# Altium footprint library Connector_Samtec.PcbLib: 15 footprints
Each footprint in its own frame and in the unit in brackets; x right, y up, seen from the top. Pads: shape width x height; smd on the part's side, far side on the other; paste and mask are expansions set on the pad; w line width, h text height; cw(c..) or ccw(c..) is an arc to the next point about the centre after c.
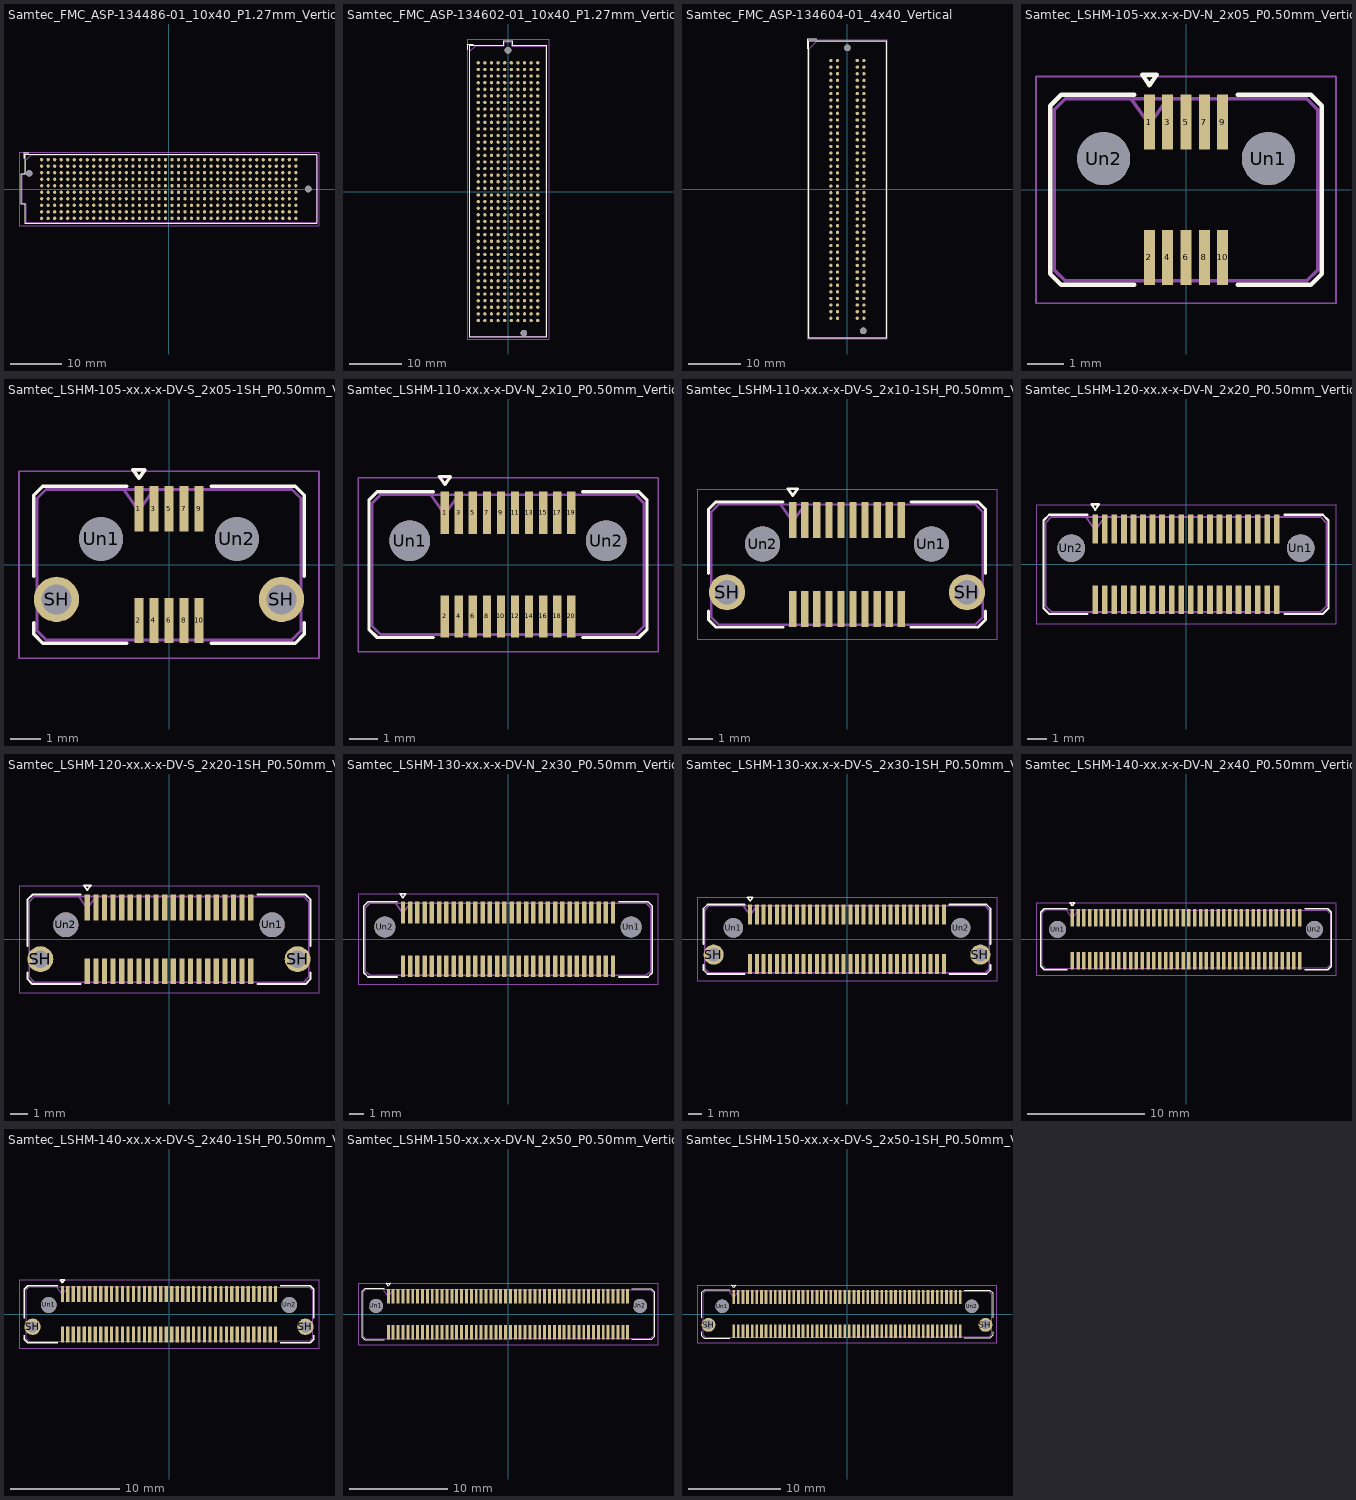
[diagram p0: the footprints below, top view; thin cyan lines are the x and y axes]

## Samtec_FMC_ASP-134486-01_10x40_P1.27mm_Vertical [mm]
pads (402):
  round 0.64 smd: A1(-24.765,5.715) A2(-23.495,5.715) A3(-22.225,5.715) A4(-20.955,5.715) A5(-19.685,5.715) A6(-18.415,5.715) A7(-17.145,5.715) A8(-15.875,5.715) A9(-14.605,5.715) A10(-13.335,5.715) A11(-12.065,5.715) A12(-10.795,5.715) A13(-9.525,5.715) A14(-8.255,5.715) A15(-6.985,5.715) A16(-5.715,5.715) A17(-4.445,5.715) A18(-3.175,5.715) A19(-1.905,5.715) A20(-0.64,5.715) A21(0.64,5.715) A22(1.905,5.715) A23(3.175,5.715) A24(4.445,5.715) A25(5.715,5.715) A26(6.985,5.715) A27(8.255,5.715) A28(9.525,5.715) A29(10.795,5.715) A30(12.065,5.715) A31(13.335,5.715) A32(14.605,5.715) A33(15.875,5.715) A34(17.145,5.715) A35(18.415,5.715) A36(19.685,5.715) A37(20.955,5.715) A38(22.225,5.715) A39(23.495,5.715) A40(24.765,5.715) B1(-24.765,4.445) B2(-23.495,4.445) B3(-22.225,4.445) B4(-20.955,4.445) B5(-19.685,4.445) B6(-18.415,4.445) B7(-17.145,4.445) B8(-15.875,4.445) B9(-14.605,4.445) B10(-13.335,4.445) B11(-12.065,4.445) B12(-10.795,4.445) B13(-9.525,4.445) B14(-8.255,4.445) B15(-6.985,4.445) B16(-5.715,4.445) B17(-4.445,4.445) B18(-3.175,4.445) B19(-1.905,4.445) B20(-0.64,4.445) B21(0.64,4.445) B22(1.905,4.445) B23(3.175,4.445) B24(4.445,4.445) B25(5.715,4.445) B26(6.985,4.445) B27(8.255,4.445) B28(9.525,4.445) B29(10.795,4.445) B30(12.065,4.445) B31(13.335,4.445) B32(14.605,4.445) B33(15.875,4.445) B34(17.145,4.445) B35(18.415,4.445) B36(19.685,4.445) B37(20.955,4.445) B38(22.225,4.445) B39(23.495,4.445) B40(24.765,4.445) C1(-24.765,3.175) C2(-23.495,3.175) C3(-22.225,3.175) C4(-20.955,3.175) C5(-19.685,3.175) C6(-18.415,3.175) C7(-17.145,3.175) C8(-15.875,3.175) C9(-14.605,3.175) C10(-13.335,3.175) C11(-12.065,3.175) C12(-10.795,3.175) C13(-9.525,3.175) C14(-8.255,3.175) C15(-6.985,3.175) C16(-5.715,3.175) C17(-4.445,3.175) C18(-3.175,3.175) C19(-1.905,3.175) C20(-0.64,3.175) C21(0.64,3.175) C22(1.905,3.175) C23(3.175,3.175) C24(4.445,3.175) C25(5.715,3.175) C26(6.985,3.175) C27(8.255,3.175) C28(9.525,3.175) C29(10.795,3.175) C30(12.065,3.175) C31(13.335,3.175) C32(14.605,3.175) C33(15.875,3.175) C34(17.145,3.175) C35(18.415,3.175) C36(19.685,3.175) C37(20.955,3.175) C38(22.225,3.175) C39(23.495,3.175) C40(24.765,3.175) D1(-24.765,1.905) D2(-23.495,1.905) D3(-22.225,1.905) D4(-20.955,1.905) D5(-19.685,1.905) D6(-18.415,1.905) D7(-17.145,1.905) D8(-15.875,1.905) D9(-14.605,1.905) D10(-13.335,1.905) D11(-12.065,1.905) D12(-10.795,1.905) D13(-9.525,1.905) D14(-8.255,1.905) D15(-6.985,1.905) D16(-5.715,1.905) D17(-4.445,1.905) D18(-3.175,1.905) D19(-1.905,1.905) D20(-0.64,1.905) D21(0.64,1.905) D22(1.905,1.905) D23(3.175,1.905) D24(4.445,1.905) D25(5.715,1.905) D26(6.985,1.905) D27(8.255,1.905) D28(9.525,1.905) D29(10.795,1.905) D30(12.065,1.905) D31(13.335,1.905) D32(14.605,1.905) D33(15.875,1.905) D34(17.145,1.905) D35(18.415,1.905) D36(19.685,1.905) D37(20.955,1.905) D38(22.225,1.905) D39(23.495,1.905) D40(24.765,1.905) E1(-24.765,0.64) E2(-23.495,0.64) E3(-22.225,0.64) E4(-20.955,0.64) E5(-19.685,0.64) E6(-18.415,0.64) E7(-17.145,0.64) E8(-15.875,0.64) E9(-14.605,0.64) E10(-13.335,0.64) E11(-12.065,0.64) E12(-10.795,0.64) E13(-9.525,0.64) E14(-8.255,0.64) E15(-6.985,0.64) E16(-5.715,0.64) E17(-4.445,0.64) E18(-3.175,0.64) E19(-1.905,0.64) E20(-0.64,0.64) E21(0.64,0.64) E22(1.905,0.64) E23(3.175,0.64) E24(4.445,0.64) E25(5.715,0.64) E26(6.985,0.64) E27(8.255,0.64) E28(9.525,0.64) E29(10.795,0.64) E30(12.065,0.64) E31(13.335,0.64) E32(14.605,0.64) E33(15.875,0.64) E34(17.145,0.64) E35(18.415,0.64) E36(19.685,0.64) E37(20.955,0.64) E38(22.225,0.64) E39(23.495,0.64) E40(24.765,0.64) F1(-24.765,-0.64) F2(-23.495,-0.64) F3(-22.225,-0.64) F4(-20.955,-0.64) F5(-19.685,-0.64) F6(-18.415,-0.64) F7(-17.145,-0.64) F8(-15.875,-0.64) F9(-14.605,-0.64) F10(-13.335,-0.64) F11(-12.065,-0.64) F12(-10.795,-0.64) F13(-9.525,-0.64) F14(-8.255,-0.64) F15(-6.985,-0.64) F16(-5.715,-0.64) F17(-4.445,-0.64) F18(-3.175,-0.64) F19(-1.905,-0.64) F20(-0.64,-0.64) F21(0.64,-0.64) F22(1.905,-0.64) F23(3.175,-0.64) F24(4.445,-0.64) F25(5.715,-0.64) F26(6.985,-0.64) F27(8.255,-0.64) F28(9.525,-0.64) F29(10.795,-0.64) F30(12.065,-0.64) F31(13.335,-0.64) F32(14.605,-0.64) F33(15.875,-0.64) F34(17.145,-0.64) F35(18.415,-0.64) F36(19.685,-0.64) F37(20.955,-0.64) F38(22.225,-0.64) F39(23.495,-0.64) F40(24.765,-0.64) G1(-24.765,-1.905) G2(-23.495,-1.905) G3(-22.225,-1.905) G4(-20.955,-1.905) G5(-19.685,-1.905) G6(-18.415,-1.905) G7(-17.145,-1.905) G8(-15.875,-1.905) G9(-14.605,-1.905) G10(-13.335,-1.905) G11(-12.065,-1.905) G12(-10.795,-1.905) G13(-9.525,-1.905) G14(-8.255,-1.905) G15(-6.985,-1.905) G16(-5.715,-1.905) G17(-4.445,-1.905) G18(-3.175,-1.905) G19(-1.905,-1.905) G20(-0.64,-1.905) G21(0.64,-1.905) G22(1.905,-1.905) G23(3.175,-1.905) G24(4.445,-1.905) G25(5.715,-1.905) G26(6.985,-1.905) G27(8.255,-1.905) G28(9.525,-1.905) G29(10.795,-1.905) G30(12.065,-1.905) G31(13.335,-1.905) G32(14.605,-1.905) G33(15.875,-1.905) G34(17.145,-1.905) G35(18.415,-1.905) G36(19.685,-1.905) G37(20.955,-1.905) G38(22.225,-1.905) G39(23.495,-1.905) G40(24.765,-1.905) H1(-24.765,-3.175) H2(-23.495,-3.175) H3(-22.225,-3.175) H4(-20.955,-3.175) H5(-19.685,-3.175) H6(-18.415,-3.175) H7(-17.145,-3.175) H8(-15.875,-3.175) H9(-14.605,-3.175) H10(-13.335,-3.175) H11(-12.065,-3.175) H12(-10.795,-3.175) H13(-9.525,-3.175) H14(-8.255,-3.175) H15(-6.985,-3.175) H16(-5.715,-3.175) H17(-4.445,-3.175) H18(-3.175,-3.175) H19(-1.905,-3.175) H20(-0.64,-3.175) H21(0.64,-3.175) H22(1.905,-3.175) H23(3.175,-3.175) H24(4.445,-3.175) H25(5.715,-3.175) H26(6.985,-3.175) H27(8.255,-3.175) H28(9.525,-3.175) H29(10.795,-3.175) H30(12.065,-3.175) H31(13.335,-3.175) H32(14.605,-3.175) H33(15.875,-3.175) H34(17.145,-3.175) H35(18.415,-3.175) H36(19.685,-3.175) H37(20.955,-3.175) H38(22.225,-3.175) H39(23.495,-3.175) H40(24.765,-3.175) J1(-24.765,-4.445) J2(-23.495,-4.445) J3(-22.225,-4.445) J4(-20.955,-4.445) J5(-19.685,-4.445) J6(-18.415,-4.445) J7(-17.145,-4.445) J8(-15.875,-4.445) J9(-14.605,-4.445) J10(-13.335,-4.445) J11(-12.065,-4.445) J12(-10.795,-4.445) J13(-9.525,-4.445) J14(-8.255,-4.445) J15(-6.985,-4.445) J16(-5.715,-4.445) J17(-4.445,-4.445) J18(-3.175,-4.445) J19(-1.905,-4.445) J20(-0.64,-4.445) J21(0.64,-4.445) J22(1.905,-4.445) J23(3.175,-4.445) J24(4.445,-4.445) J25(5.715,-4.445) J26(6.985,-4.445) J27(8.255,-4.445) J28(9.525,-4.445) J29(10.795,-4.445) J30(12.065,-4.445) J31(13.335,-4.445) J32(14.605,-4.445) J33(15.875,-4.445) J34(17.145,-4.445) J35(18.415,-4.445) J36(19.685,-4.445) J37(20.955,-4.445) J38(22.225,-4.445) J39(23.495,-4.445) J40(24.765,-4.445) K1(-24.765,-5.715) K2(-23.495,-5.715) K3(-22.225,-5.715) K4(-20.955,-5.715) K5(-19.685,-5.715) K6(-18.415,-5.715) K7(-17.145,-5.715) K8(-15.875,-5.715) K9(-14.605,-5.715) K10(-13.335,-5.715) K11(-12.065,-5.715) K12(-10.795,-5.715) K13(-9.525,-5.715) K14(-8.255,-5.715) K15(-6.985,-5.715) K16(-5.715,-5.715) K17(-4.445,-5.715) K18(-3.175,-5.715) K19(-1.905,-5.715) K20(-0.64,-5.715) K21(0.64,-5.715) K22(1.905,-5.715) K23(3.175,-5.715) K24(4.445,-5.715) K25(5.715,-5.715) K26(6.985,-5.715) K27(8.255,-5.715) K28(9.525,-5.715) K29(10.795,-5.715) K30(12.065,-5.715) K31(13.335,-5.715) K32(14.605,-5.715) K33(15.875,-5.715) K34(17.145,-5.715) K35(18.415,-5.715) K36(19.685,-5.715) K37(20.955,-5.715) K38(22.225,-5.715) K39(23.495,-5.715) K40(24.765,-5.715)
  round 1.27 hole 1.27: Un1(27.191,0) Un2(-27.19,3.05)
F.SilkS:
  lines w0.12: -28.235,5.97 -28.235,6.97 -27.235,6.97 ; 28.865,6.725 -27.975,6.725 -27.975,2.96 -28.775,2.96 -28.775,-2.96 -27.975,-2.96 -27.975,-6.725 28.87,-6.725 ; 28.87,-6.72 28.87,6.72
F.CrtYd:
  lines w0.05: -29.17,-7.12 -29.17,7.12 29.27,7.12 29.27,-7.12 -29.17,-7.12
F.Fab:
  lines w0.1: -27.865,5.63 -27.865,2.85 -28.665,2.85 -28.665,-2.85 -27.865,-2.85 -27.865,-6.615 28.765,-6.615 28.765,6.615 -26.885,6.615 ; -27.865,5.64 -26.885,6.62
  text "'.Designator'" at -3.907,-0.84 h1

## Samtec_FMC_ASP-134602-01_10x40_P1.27mm_Vertical [mm]
pads (402):
  round 0.64 smd: A1(-5.715,24.765) A2(-5.715,23.495) A3(-5.715,22.225) A4(-5.715,20.955) A5(-5.715,19.685) A6(-5.715,18.415) A7(-5.715,17.145) A8(-5.715,15.875) A9(-5.715,14.605) A10(-5.715,13.335) A11(-5.715,12.065) A12(-5.715,10.795) A13(-5.715,9.525) A14(-5.715,8.255) A15(-5.715,6.985) A16(-5.715,5.715) A17(-5.715,4.445) A18(-5.715,3.175) A19(-5.715,1.905) A20(-5.715,0.64) A21(-5.715,-0.64) A22(-5.715,-1.905) A23(-5.715,-3.175) A24(-5.715,-4.445) A25(-5.715,-5.715) A26(-5.715,-6.985) A27(-5.715,-8.255) A28(-5.715,-9.525) A29(-5.715,-10.795) A30(-5.715,-12.065) A31(-5.715,-13.335) A32(-5.715,-14.605) A33(-5.715,-15.875) A34(-5.715,-17.145) A35(-5.715,-18.415) A36(-5.715,-19.685) A37(-5.715,-20.955) A38(-5.715,-22.225) A39(-5.715,-23.495) A40(-5.715,-24.765) B1(-4.445,24.765) B2(-4.445,23.495) B3(-4.445,22.225) B4(-4.445,20.955) B5(-4.445,19.685) B6(-4.445,18.415) B7(-4.445,17.145) B8(-4.445,15.875) B9(-4.445,14.605) B10(-4.445,13.335) B11(-4.445,12.065) B12(-4.445,10.795) B13(-4.445,9.525) B14(-4.445,8.255) B15(-4.445,6.985) B16(-4.445,5.715) B17(-4.445,4.445) B18(-4.445,3.175) B19(-4.445,1.905) B20(-4.445,0.64) B21(-4.445,-0.64) B22(-4.445,-1.905) B23(-4.445,-3.175) B24(-4.445,-4.445) B25(-4.445,-5.715) B26(-4.445,-6.985) B27(-4.445,-8.255) B28(-4.445,-9.525) B29(-4.445,-10.795) B30(-4.445,-12.065) B31(-4.445,-13.335) B32(-4.445,-14.605) B33(-4.445,-15.875) B34(-4.445,-17.145) B35(-4.445,-18.415) B36(-4.445,-19.685) B37(-4.445,-20.955) B38(-4.445,-22.225) B39(-4.445,-23.495) B40(-4.445,-24.765) C1(-3.175,24.765) C2(-3.175,23.495) C3(-3.175,22.225) C4(-3.175,20.955) C5(-3.175,19.685) C6(-3.175,18.415) C7(-3.175,17.145) C8(-3.175,15.875) C9(-3.175,14.605) C10(-3.175,13.335) C11(-3.175,12.065) C12(-3.175,10.795) C13(-3.175,9.525) C14(-3.175,8.255) C15(-3.175,6.985) C16(-3.175,5.715) C17(-3.175,4.445) C18(-3.175,3.175) C19(-3.175,1.905) C20(-3.175,0.64) C21(-3.175,-0.64) C22(-3.175,-1.905) C23(-3.175,-3.175) C24(-3.175,-4.445) C25(-3.175,-5.715) C26(-3.175,-6.985) C27(-3.175,-8.255) C28(-3.175,-9.525) C29(-3.175,-10.795) C30(-3.175,-12.065) C31(-3.175,-13.335) C32(-3.175,-14.605) C33(-3.175,-15.875) C34(-3.175,-17.145) C35(-3.175,-18.415) C36(-3.175,-19.685) C37(-3.175,-20.955) C38(-3.175,-22.225) C39(-3.175,-23.495) C40(-3.175,-24.765) D1(-1.905,24.765) D2(-1.905,23.495) D3(-1.905,22.225) D4(-1.905,20.955) D5(-1.905,19.685) D6(-1.905,18.415) D7(-1.905,17.145) D8(-1.905,15.875) D9(-1.905,14.605) D10(-1.905,13.335) D11(-1.905,12.065) D12(-1.905,10.795) D13(-1.905,9.525) D14(-1.905,8.255) D15(-1.905,6.985) D16(-1.905,5.715) D17(-1.905,4.445) D18(-1.905,3.175) D19(-1.905,1.905) D20(-1.905,0.64) D21(-1.905,-0.64) D22(-1.905,-1.905) D23(-1.905,-3.175) D24(-1.905,-4.445) D25(-1.905,-5.715) D26(-1.905,-6.985) D27(-1.905,-8.255) D28(-1.905,-9.525) D29(-1.905,-10.795) D30(-1.905,-12.065) D31(-1.905,-13.335) D32(-1.905,-14.605) D33(-1.905,-15.875) D34(-1.905,-17.145) D35(-1.905,-18.415) D36(-1.905,-19.685) D37(-1.905,-20.955) D38(-1.905,-22.225) D39(-1.905,-23.495) D40(-1.905,-24.765) E1(-0.64,24.765) E2(-0.64,23.495) E3(-0.64,22.225) E4(-0.64,20.955) E5(-0.64,19.685) E6(-0.64,18.415) E7(-0.64,17.145) E8(-0.64,15.875) E9(-0.64,14.605) E10(-0.64,13.335) E11(-0.64,12.065) E12(-0.64,10.795) E13(-0.64,9.525) E14(-0.64,8.255) E15(-0.64,6.985) E16(-0.64,5.715) E17(-0.64,4.445) E18(-0.64,3.175) E19(-0.64,1.905) E20(-0.64,0.64) E21(-0.64,-0.64) E22(-0.64,-1.905) E23(-0.64,-3.175) E24(-0.64,-4.445) E25(-0.64,-5.715) E26(-0.64,-6.985) E27(-0.64,-8.255) E28(-0.64,-9.525) E29(-0.64,-10.795) E30(-0.64,-12.065) E31(-0.64,-13.335) E32(-0.64,-14.605) E33(-0.64,-15.875) E34(-0.64,-17.145) E35(-0.64,-18.415) E36(-0.64,-19.685) E37(-0.64,-20.955) E38(-0.64,-22.225) E39(-0.64,-23.495) E40(-0.64,-24.765) F1(0.64,24.765) F2(0.64,23.495) F3(0.64,22.225) F4(0.64,20.955) F5(0.64,19.685) F6(0.64,18.415) F7(0.64,17.145) F8(0.64,15.875) F9(0.64,14.605) F10(0.64,13.335) F11(0.64,12.065) F12(0.64,10.795) F13(0.64,9.525) F14(0.64,8.255) F15(0.64,6.985) F16(0.64,5.715) F17(0.64,4.445) F18(0.64,3.175) F19(0.64,1.905) F20(0.64,0.64) F21(0.64,-0.64) F22(0.64,-1.905) F23(0.64,-3.175) F24(0.64,-4.445) F25(0.64,-5.715) F26(0.64,-6.985) F27(0.64,-8.255) F28(0.64,-9.525) F29(0.64,-10.795) F30(0.64,-12.065) F31(0.64,-13.335) F32(0.64,-14.605) F33(0.64,-15.875) F34(0.64,-17.145) F35(0.64,-18.415) F36(0.64,-19.685) F37(0.64,-20.955) F38(0.64,-22.225) F39(0.64,-23.495) F40(0.64,-24.765) G1(1.905,24.765) G2(1.905,23.495) G3(1.905,22.225) G4(1.905,20.955) G5(1.905,19.685) G6(1.905,18.415) G7(1.905,17.145) G8(1.905,15.875) G9(1.905,14.605) G10(1.905,13.335) G11(1.905,12.065) G12(1.905,10.795) G13(1.905,9.525) G14(1.905,8.255) G15(1.905,6.985) G16(1.905,5.715) G17(1.905,4.445) G18(1.905,3.175) G19(1.905,1.905) G20(1.905,0.64) G21(1.905,-0.64) G22(1.905,-1.905) G23(1.905,-3.175) G24(1.905,-4.445) G25(1.905,-5.715) G26(1.905,-6.985) G27(1.905,-8.255) G28(1.905,-9.525) G29(1.905,-10.795) G30(1.905,-12.065) G31(1.905,-13.335) G32(1.905,-14.605) G33(1.905,-15.875) G34(1.905,-17.145) G35(1.905,-18.415) G36(1.905,-19.685) G37(1.905,-20.955) G38(1.905,-22.225) G39(1.905,-23.495) G40(1.905,-24.765) H1(3.175,24.765) H2(3.175,23.495) H3(3.175,22.225) H4(3.175,20.955) H5(3.175,19.685) H6(3.175,18.415) H7(3.175,17.145) H8(3.175,15.875) H9(3.175,14.605) H10(3.175,13.335) H11(3.175,12.065) H12(3.175,10.795) H13(3.175,9.525) H14(3.175,8.255) H15(3.175,6.985) H16(3.175,5.715) H17(3.175,4.445) H18(3.175,3.175) H19(3.175,1.905) H20(3.175,0.64) H21(3.175,-0.64) H22(3.175,-1.905) H23(3.175,-3.175) H24(3.175,-4.445) H25(3.175,-5.715) H26(3.175,-6.985) H27(3.175,-8.255) H28(3.175,-9.525) H29(3.175,-10.795) H30(3.175,-12.065) H31(3.175,-13.335) H32(3.175,-14.605) H33(3.175,-15.875) H34(3.175,-17.145) H35(3.175,-18.415) H36(3.175,-19.685) H37(3.175,-20.955) H38(3.175,-22.225) H39(3.175,-23.495) H40(3.175,-24.765) J1(4.445,24.765) J2(4.445,23.495) J3(4.445,22.225) J4(4.445,20.955) J5(4.445,19.685) J6(4.445,18.415) J7(4.445,17.145) J8(4.445,15.875) J9(4.445,14.605) J10(4.445,13.335) J11(4.445,12.065) J12(4.445,10.795) J13(4.445,9.525) J14(4.445,8.255) J15(4.445,6.985) J16(4.445,5.715) J17(4.445,4.445) J18(4.445,3.175) J19(4.445,1.905) J20(4.445,0.64) J21(4.445,-0.64) J22(4.445,-1.905) J23(4.445,-3.175) J24(4.445,-4.445) J25(4.445,-5.715) J26(4.445,-6.985) J27(4.445,-8.255) J28(4.445,-9.525) J29(4.445,-10.795) J30(4.445,-12.065) J31(4.445,-13.335) J32(4.445,-14.605) J33(4.445,-15.875) J34(4.445,-17.145) J35(4.445,-18.415) J36(4.445,-19.685) J37(4.445,-20.955) J38(4.445,-22.225) J39(4.445,-23.495) J40(4.445,-24.765) K1(5.715,24.765) K2(5.715,23.495) K3(5.715,22.225) K4(5.715,20.955) K5(5.715,19.685) K6(5.715,18.415) K7(5.715,17.145) K8(5.715,15.875) K9(5.715,14.605) K10(5.715,13.335) K11(5.715,12.065) K12(5.715,10.795) K13(5.715,9.525) K14(5.715,8.255) K15(5.715,6.985) K16(5.715,5.715) K17(5.715,4.445) K18(5.715,3.175) K19(5.715,1.905) K20(5.715,0.64) K21(5.715,-0.64) K22(5.715,-1.905) K23(5.715,-3.175) K24(5.715,-4.445) K25(5.715,-5.715) K26(5.715,-6.985) K27(5.715,-8.255) K28(5.715,-9.525) K29(5.715,-10.795) K30(5.715,-12.065) K31(5.715,-13.335) K32(5.715,-14.605) K33(5.715,-15.875) K34(5.715,-17.145) K35(5.715,-18.415) K36(5.715,-19.685) K37(5.715,-20.955) K38(5.715,-22.225) K39(5.715,-23.495) K40(5.715,-24.765)
  round 1.27 hole 1.27: Un1(3.05,-27.19) Un2(0,27.19)
F.SilkS:
  lines w0.12: -7.7,27.3 -7.7,28.3 -6.7,28.3 ; -7.45,-27.93 -7.45,28.07 -0.87,28.07 -0.87,28.96 0.87,28.96 0.87,28.07 7.45,28.07 7.45,-27.93 -7.45,-27.93
F.CrtYd:
  lines w0.05: -7.84,-28.32 -7.84,29.35 7.84,29.35 7.84,-28.32 -7.84,-28.32
F.Fab:
  lines w0.1: -7.34,-27.82 7.34,-27.82 7.34,27.96 0.76,27.96 0.76,28.85 -0.76,28.85 -0.76,27.96 -6.33,27.96 -7.34,26.95 -7.34,-27.82
  text "'.Designator'" at -4.047,-0.98 h1

## Samtec_FMC_ASP-134604-01_4x40_Vertical [mm]
pads (162):
  round 0.64 smd: C01(-3.175,24.765) C02(-3.175,23.495) C03(-3.175,22.225) C04(-3.175,20.955) C05(-3.175,19.685) C06(-3.175,18.415) C07(-3.175,17.145) C08(-3.175,15.875) C09(-3.175,14.605) C10(-3.175,13.335) C11(-3.175,12.065) C12(-3.175,10.795) C13(-3.175,9.525) C14(-3.175,8.255) C15(-3.175,6.985) C16(-3.175,5.715) C17(-3.175,4.445) C18(-3.175,3.175) C19(-3.175,1.905) C20(-3.175,0.635) C21(-3.175,-0.64) C22(-3.175,-1.905) C23(-3.175,-3.175) C24(-3.175,-4.445) C25(-3.175,-5.715) C26(-3.175,-6.985) C27(-3.175,-8.255) C28(-3.175,-9.525) C29(-3.175,-10.795) C30(-3.175,-12.065) C31(-3.175,-13.335) C32(-3.175,-14.605) C33(-3.175,-15.875) C34(-3.175,-17.145) C35(-3.175,-18.415) C36(-3.175,-19.685) C37(-3.175,-20.955) C38(-3.175,-22.225) C39(-3.175,-23.495) C40(-3.175,-24.765) D01(-1.905,24.765) D02(-1.905,23.495) D03(-1.905,22.225) D04(-1.905,20.955) D05(-1.905,19.685) D06(-1.905,18.415) D07(-1.905,17.145) D08(-1.905,15.875) D09(-1.905,14.605) D10(-1.905,13.335) D11(-1.905,12.065) D12(-1.905,10.795) D13(-1.905,9.525) D14(-1.905,8.255) D15(-1.905,6.985) D16(-1.905,5.715) D17(-1.905,4.445) D18(-1.905,3.175) D19(-1.905,1.91) D20(-1.905,0.635) D21(-1.905,-0.635) D22(-1.905,-1.905) D23(-1.905,-3.175) D24(-1.905,-4.445) D25(-1.905,-5.715) D26(-1.905,-6.985) D27(-1.905,-8.255) D28(-1.905,-9.525) D29(-1.905,-10.795) D30(-1.905,-12.065) D31(-1.905,-13.335) D32(-1.905,-14.605) D33(-1.905,-15.875) D34(-1.905,-17.145) D35(-1.905,-18.415) D36(-1.905,-19.685) D37(-1.905,-20.955) D38(-1.905,-22.225) D39(-1.905,-23.495) D40(-1.905,-24.765) G01(1.905,24.765) G02(1.905,23.495) G03(1.905,22.225) G04(1.905,20.955) G05(1.905,19.685) G06(1.905,18.415) G07(1.905,17.14) G08(1.905,15.875) G09(1.905,14.605) G10(1.905,13.335) G11(1.905,12.065) G12(1.905,10.795) G13(1.905,9.525) G14(1.905,8.255) G15(1.905,6.985) G16(1.905,5.715) G17(1.905,4.445) G18(1.905,3.17) G19(1.905,1.905) G20(1.905,0.635) G21(1.905,-0.635) G22(1.905,-1.905) G23(1.905,-3.175) G24(1.905,-4.445) G25(1.905,-5.71) G26(1.905,-6.985) G27(1.905,-8.255) G28(1.905,-9.525) G29(1.905,-10.795) G30(1.905,-12.065) G31(1.905,-13.335) G32(1.905,-14.605) G33(1.905,-15.875) G34(1.905,-17.145) G35(1.905,-18.415) G36(1.905,-19.685) G37(1.905,-20.955) G38(1.905,-22.225) G39(1.905,-23.495) G40(1.905,-24.765) H01(3.175,24.765) H02(3.175,23.495) H03(3.175,22.225) H04(3.175,20.955) H05(3.175,19.685) H06(3.175,18.415) H07(3.175,17.14) H08(3.175,15.875) H09(3.175,14.605) H10(3.175,13.335) H11(3.175,12.065) H12(3.175,10.795) H13(3.175,9.525) H14(3.175,8.255) H15(3.175,6.985) H16(3.175,5.715) H17(3.175,4.445) H18(3.175,3.17) H19(3.175,1.905) H20(3.175,0.635) H21(3.175,-0.635) H22(3.175,-1.905) H23(3.175,-3.175) H24(3.175,-4.445) H25(3.175,-5.715) H26(3.175,-6.985) H27(3.175,-8.255) H28(3.175,-9.525) H29(3.175,-10.795) H30(3.175,-12.065) H31(3.175,-13.335) H32(3.175,-14.605) H33(3.175,-15.875) H34(3.175,-17.145) H35(3.175,-18.415) H36(3.175,-19.685) H37(3.175,-20.955) H38(3.175,-22.225) H39(3.175,-23.495) H40(3.175,-24.765)
  round 1.27 hole 1.27: Un1(0,27.19) Un2(3.05,-27.19)
F.SilkS:
  lines w0.12: -7.74,27 -7.74,28.9 -5.84,28.9 ; -7.45,-28.61 7.45,-28.61 7.45,28.61 -7.45,28.61 -7.45,-28.61
F.CrtYd:
  lines w0.05: -7.59,-28.75 7.59,-28.75 7.59,28.75 -7.59,28.75 -7.59,-28.75
F.Fab:
  lines w0.1: -7.34,-28.5 7.34,-28.5 7.34,28.5 -5.84,28.5 -7.34,27 -7.34,-28.5
  text "'.Designator'" at 0.84,-4.047 h1

## Samtec_LSHM-105-xx.x-x-DV-N_2x05_P0.50mm_Vertical [mm]
pads (12):
  rect 0.3x1.5 smd: 1(-1,1.85) 2(-1,-1.85) 3(-0.5,1.85) 4(-0.5,-1.85) 5(0,1.85) 6(0,-1.85) 7(0.5,1.85) 8(0.5,-1.85) 9(1,1.85) 10(1,-1.85)
  round 1.45 hole 1.45: Un1(2.25,0.85) Un2(-2.25,0.85)
F.SilkS:
  lines w0.12: -1.41,-2.6 -3.41,-2.6 -3.71,-2.3 -3.71,2.3 -3.41,2.6 -1.41,2.6 ; 1.41,-2.6 3.41,-2.6 3.71,-2.3 3.71,2.3 3.41,2.6 1.41,2.6 ; -1.2,3.143 -0.8,3.143 -1,2.86 -1.2,3.143
F.CrtYd:
  lines w0.05: -4.1,-3.1 4.1,-3.1 4.1,3.1 -4.1,3.1 -4.1,-3.1
F.Fab:
  lines w0.1: -1.5,2.49 -1,1.783 -0.5,2.49 ; -3.6,-2.19 -3.6,2.19 -3.3,2.49 0,2.49 3.3,2.49 3.6,2.19 3.6,-2.19 3.3,-2.49 0,-2.49 -3.3,-2.49 -3.6,-2.19
  text "'.Designator'" at -4.047,-0.84 h1

## Samtec_LSHM-105-xx.x-x-DV-S_2x05-1SH_P0.50mm_Vertical [mm]
pads (14):
  rect 0.3x1.5 smd: 1(-1,1.85) 2(-1,-1.85) 3(-0.5,1.85) 4(-0.5,-1.85) 5(0,1.85) 6(0,-1.85) 7(0.5,1.85) 8(0.5,-1.85) 9(1,1.85) 10(1,-1.85)
  round 1.5 hole 1: SH(-3.725,-1.15) SH(3.725,-1.15)
  round 1.45 hole 1.45: Un1(-2.25,0.85) Un2(2.25,0.85)
F.SilkS:
  lines w0.12: -4.485,-1.923 -4.485,-2.3 -4.185,-2.6 -1.41,-2.6 ; -4.485,-0.377 -4.485,2.3 -4.185,2.6 -1.41,2.6 ; 1.41,-2.6 4.185,-2.6 4.485,-2.3 4.485,-1.923 ; 1.41,2.6 4.185,2.6 4.485,2.3 4.485,-0.377 ; -1.2,3.143 -0.8,3.143 -1,2.86 -1.2,3.143
F.CrtYd:
  lines w0.05: -4.97,-3.1 4.97,-3.1 4.97,3.1 -4.97,3.1 -4.97,-3.1
F.Fab:
  lines w0.1: -1.5,2.49 -1,1.783 -0.5,2.49 ; -4.375,-2.19 -4.075,-2.49 0,-2.49 4.075,-2.49 4.375,-2.19 4.375,2.19 4.075,2.49 0,2.49 -4.075,2.49 -4.375,2.19 -4.375,-2.19
  text "'.Designator'" at -4.047,-0.84 h1

## Samtec_LSHM-110-xx.x-x-DV-N_2x10_P0.50mm_Vertical [mm]
pads (22):
  rect 0.3x1.5 smd: 1(-2.25,1.85) 2(-2.25,-1.85) 3(-1.75,1.85) 4(-1.75,-1.85) 5(-1.25,1.85) 6(-1.25,-1.85) 7(-0.75,1.85) 8(-0.75,-1.85) 9(-0.25,1.85) 10(-0.25,-1.85) 11(0.25,1.85) 12(0.25,-1.85) 13(0.75,1.85) 14(0.75,-1.85) 15(1.25,1.85) 16(1.25,-1.85) 17(1.75,1.85) 18(1.75,-1.85) 19(2.25,1.85) 20(2.25,-1.85)
  round 1.45 hole 1.45: Un1(-3.5,0.85) Un2(3.5,0.85)
F.SilkS:
  lines w0.12: -2.66,-2.6 -4.66,-2.6 -4.96,-2.3 -4.96,2.3 -4.66,2.6 -2.66,2.6 ; 2.66,-2.6 4.66,-2.6 4.96,-2.3 4.96,2.3 4.66,2.6 2.66,2.6 ; -2.45,3.143 -2.25,2.86 -2.05,3.143 -2.45,3.143
F.CrtYd:
  lines w0.05: -5.35,-3.1 -5.35,3.1 5.35,3.1 5.35,-3.1 -5.35,-3.1
F.Fab:
  lines w0.1: -2.75,2.49 -2.25,1.783 -1.75,2.49 ; -4.85,-2.19 -4.55,-2.49 0,-2.49 4.55,-2.49 4.85,-2.19 4.85,2.19 4.55,2.49 0,2.49 -4.55,2.49 -4.85,2.19 -4.85,-2.19
  text "'.Designator'" at -4.047,-0.84 h1

## Samtec_LSHM-110-xx.x-x-DV-S_2x10-1SH_P0.50mm_Vertical [mm]
pads (24):
  rect 0.3x1.5 smd: 1(-2.25,1.85) 2(-2.25,-1.85) 3(-1.75,1.85) 4(-1.75,-1.85) 5(-1.25,1.85) 6(-1.25,-1.85) 7(-0.75,1.85) 8(-0.75,-1.85) 9(-0.25,1.85) 10(-0.25,-1.85) 11(0.25,1.85) 12(0.25,-1.85) 13(0.75,1.85) 14(0.75,-1.85) 15(1.25,1.85) 16(1.25,-1.85) 17(1.75,1.85) 18(1.75,-1.85) 19(2.25,1.85) 20(2.25,-1.85)
  round 1.5 hole 1: SH(-4.975,-1.15) SH(4.975,-1.15)
  round 1.45 hole 1.45: Un1(3.5,0.85) Un2(-3.5,0.85)
F.SilkS:
  lines w0.12: -5.735,-1.923 -5.735,-2.3 -5.435,-2.6 -2.66,-2.6 ; -5.735,-0.377 -5.735,2.3 -5.435,2.6 -2.66,2.6 ; 2.66,-2.6 5.435,-2.6 5.735,-2.3 5.735,-1.923 ; 2.66,2.6 5.435,2.6 5.735,2.3 5.735,-0.377 ; -2.45,3.143 -2.05,3.143 -2.25,2.86 -2.45,3.143
F.CrtYd:
  lines w0.05: -6.22,-3.1 6.22,-3.1 6.22,3.1 -6.22,3.1 -6.22,-3.1
F.Fab:
  lines w0.1: -2.75,2.49 -2.25,1.783 -1.75,2.49 ; -5.625,-2.19 -5.625,2.19 -5.325,2.49 0,2.49 5.325,2.49 5.625,2.19 5.625,-2.19 5.325,-2.49 0,-2.49 -5.325,-2.49 -5.625,-2.19
  text "'.Designator'" at -4.047,-0.84 h1

## Samtec_LSHM-120-xx.x-x-DV-N_2x20_P0.50mm_Vertical [mm]
pads (42):
  rect 0.3x1.5 smd: 1(-4.75,1.85) 2(-4.75,-1.85) 3(-4.25,1.85) 4(-4.25,-1.85) 5(-3.75,1.85) 6(-3.75,-1.85) 7(-3.25,1.85) 8(-3.25,-1.85) 9(-2.75,1.85) 10(-2.75,-1.85) 11(-2.25,1.85) 12(-2.25,-1.85) 13(-1.75,1.85) 14(-1.75,-1.85) 15(-1.25,1.85) 16(-1.25,-1.85) 17(-0.75,1.85) 18(-0.75,-1.85) 19(-0.25,1.85) 20(-0.25,-1.85) 21(0.25,1.85) 22(0.25,-1.85) 23(0.75,1.85) 24(0.75,-1.85) 25(1.25,1.85) 26(1.25,-1.85) 27(1.75,1.85) 28(1.75,-1.85) 29(2.25,1.85) 30(2.25,-1.85) 31(2.75,1.85) 32(2.75,-1.85) 33(3.25,1.85) 34(3.25,-1.85) 35(3.75,1.85) 36(3.75,-1.85) 37(4.25,1.85) 38(4.25,-1.85) 39(4.75,1.85) 40(4.75,-1.85)
  round 1.45 hole 1.45: Un1(6,0.85) Un2(-6,0.85)
F.SilkS:
  lines w0.12: -5.16,-2.6 -7.16,-2.6 -7.46,-2.3 -7.46,2.3 -7.16,2.6 -5.16,2.6 ; 5.16,-2.6 7.16,-2.6 7.46,-2.3 7.46,2.3 7.16,2.6 5.16,2.6 ; -4.95,3.143 -4.75,2.86 -4.55,3.143 -4.95,3.143
F.CrtYd:
  lines w0.05: -7.85,-3.1 7.85,-3.1 7.85,3.1 -7.85,3.1 -7.85,-3.1
F.Fab:
  lines w0.1: -5.25,2.49 -4.75,1.783 -4.25,2.49 ; -7.35,-2.19 -7.35,2.19 -7.05,2.49 0,2.49 7.05,2.49 7.35,2.19 7.35,-2.19 7.05,-2.49 0,-2.49 -7.05,-2.49 -7.35,-2.19
  text "'.Designator'" at -4.047,-0.84 h1

## Samtec_LSHM-120-xx.x-x-DV-S_2x20-1SH_P0.50mm_Vertical [mm]
pads (44):
  rect 0.3x1.5 smd: 1(-4.75,1.85) 2(-4.75,-1.85) 3(-4.25,1.85) 4(-4.25,-1.85) 5(-3.75,1.85) 6(-3.75,-1.85) 7(-3.25,1.85) 8(-3.25,-1.85) 9(-2.75,1.85) 10(-2.75,-1.85) 11(-2.25,1.85) 12(-2.25,-1.85) 13(-1.75,1.85) 14(-1.75,-1.85) 15(-1.25,1.85) 16(-1.25,-1.85) 17(-0.75,1.85) 18(-0.75,-1.85) 19(-0.25,1.85) 20(-0.25,-1.85) 21(0.25,1.85) 22(0.25,-1.85) 23(0.75,1.85) 24(0.75,-1.85) 25(1.25,1.85) 26(1.25,-1.85) 27(1.75,1.85) 28(1.75,-1.85) 29(2.25,1.85) 30(2.25,-1.85) 31(2.75,1.85) 32(2.75,-1.85) 33(3.25,1.85) 34(3.25,-1.85) 35(3.75,1.85) 36(3.75,-1.85) 37(4.25,1.85) 38(4.25,-1.85) 39(4.75,1.85) 40(4.75,-1.85)
  round 1.5 hole 1: SH(-7.475,-1.15) SH(7.475,-1.15)
  round 1.45 hole 1.45: Un1(6,0.85) Un2(-6,0.85)
F.SilkS:
  lines w0.12: -8.235,-1.923 -8.235,-2.3 -7.935,-2.6 -5.16,-2.6 ; -8.235,-0.377 -8.235,2.3 -7.935,2.6 -5.16,2.6 ; 5.16,-2.6 7.935,-2.6 8.235,-2.3 8.235,-1.923 ; 5.16,2.6 7.935,2.6 8.235,2.3 8.235,-0.377 ; -4.95,3.143 -4.55,3.143 -4.75,2.86 -4.95,3.143
F.CrtYd:
  lines w0.05: -8.72,-3.1 -8.72,3.1 8.72,3.1 8.72,-3.1 -8.72,-3.1
F.Fab:
  lines w0.1: -5.25,2.49 -4.75,1.783 -4.25,2.49 ; -8.125,-2.19 -8.125,2.19 -7.825,2.49 0,2.49 7.825,2.49 8.125,2.19 8.125,-2.19 7.825,-2.49 0,-2.49 -7.825,-2.49 -8.125,-2.19
  text "'.Designator'" at -4.047,-0.84 h1

## Samtec_LSHM-130-xx.x-x-DV-N_2x30_P0.50mm_Vertical [mm]
pads (62):
  rect 0.3x1.5 smd: 1(-7.25,1.85) 2(-7.25,-1.85) 3(-6.75,1.85) 4(-6.75,-1.85) 5(-6.25,1.85) 6(-6.25,-1.85) 7(-5.75,1.85) 8(-5.75,-1.85) 9(-5.25,1.85) 10(-5.25,-1.85) 11(-4.75,1.85) 12(-4.75,-1.85) 13(-4.25,1.85) 14(-4.25,-1.85) 15(-3.75,1.85) 16(-3.75,-1.85) 17(-3.25,1.85) 18(-3.25,-1.85) 19(-2.75,1.85) 20(-2.75,-1.85) 21(-2.25,1.85) 22(-2.25,-1.85) 23(-1.75,1.85) 24(-1.75,-1.85) 25(-1.25,1.85) 26(-1.25,-1.85) 27(-0.75,1.85) 28(-0.75,-1.85) 29(-0.25,1.85) 30(-0.25,-1.85) 31(0.25,1.85) 32(0.25,-1.85) 33(0.75,1.85) 34(0.75,-1.85) 35(1.25,1.85) 36(1.25,-1.85) 37(1.75,1.85) 38(1.75,-1.85) 39(2.25,1.85) 40(2.25,-1.85) 41(2.75,1.85) 42(2.75,-1.85) 43(3.25,1.85) 44(3.25,-1.85) 45(3.75,1.85) 46(3.75,-1.85) 47(4.25,1.85) 48(4.25,-1.85) 49(4.75,1.85) 50(4.75,-1.85) 51(5.25,1.85) 52(5.25,-1.85) 53(5.75,1.85) 54(5.75,-1.85) 55(6.25,1.85) 56(6.25,-1.85) 57(6.75,1.85) 58(6.75,-1.85) 59(7.25,1.85) 60(7.25,-1.85)
  round 1.45 hole 1.45: Un1(8.5,0.85) Un2(-8.5,0.85)
F.SilkS:
  lines w0.12: -7.66,-2.6 -9.66,-2.6 -9.96,-2.3 -9.96,2.3 -9.66,2.6 -7.66,2.6 ; 7.66,-2.6 9.66,-2.6 9.96,-2.3 9.96,2.3 9.66,2.6 7.66,2.6 ; -7.45,3.143 -7.25,2.86 -7.05,3.143 -7.45,3.143
F.CrtYd:
  lines w0.05: -10.35,-3.1 -10.35,3.1 10.35,3.1 10.35,-3.1 -10.35,-3.1
F.Fab:
  lines w0.1: -7.75,2.49 -7.25,1.783 -6.75,2.49 ; -9.85,-2.19 -9.85,2.19 -9.55,2.49 0,2.49 9.55,2.49 9.85,2.19 9.85,-2.19 9.55,-2.49 0,-2.49 -9.55,-2.49 -9.85,-2.19
  text "'.Designator'" at -4.047,-0.84 h1

## Samtec_LSHM-130-xx.x-x-DV-S_2x30-1SH_P0.50mm_Vertical [mm]
pads (64):
  rect 0.3x1.5 smd: 1(-7.25,1.85) 2(-7.25,-1.85) 3(-6.75,1.85) 4(-6.75,-1.85) 5(-6.25,1.85) 6(-6.25,-1.85) 7(-5.75,1.85) 8(-5.75,-1.85) 9(-5.25,1.85) 10(-5.25,-1.85) 11(-4.75,1.85) 12(-4.75,-1.85) 13(-4.25,1.85) 14(-4.25,-1.85) 15(-3.75,1.85) 16(-3.75,-1.85) 17(-3.25,1.85) 18(-3.25,-1.85) 19(-2.75,1.85) 20(-2.75,-1.85) 21(-2.25,1.85) 22(-2.25,-1.85) 23(-1.75,1.85) 24(-1.75,-1.85) 25(-1.25,1.85) 26(-1.25,-1.85) 27(-0.75,1.85) 28(-0.75,-1.85) 29(-0.25,1.85) 30(-0.25,-1.85) 31(0.25,1.85) 32(0.25,-1.85) 33(0.75,1.85) 34(0.75,-1.85) 35(1.25,1.85) 36(1.25,-1.85) 37(1.75,1.85) 38(1.75,-1.85) 39(2.25,1.85) 40(2.25,-1.85) 41(2.75,1.85) 42(2.75,-1.85) 43(3.25,1.85) 44(3.25,-1.85) 45(3.75,1.85) 46(3.75,-1.85) 47(4.25,1.85) 48(4.25,-1.85) 49(4.75,1.85) 50(4.75,-1.85) 51(5.25,1.85) 52(5.25,-1.85) 53(5.75,1.85) 54(5.75,-1.85) 55(6.25,1.85) 56(6.25,-1.85) 57(6.75,1.85) 58(6.75,-1.85) 59(7.25,1.85) 60(7.25,-1.85)
  round 1.5 hole 1: SH(-9.975,-1.15) SH(9.975,-1.15)
  round 1.45 hole 1.45: Un1(-8.5,0.85) Un2(8.5,0.85)
F.SilkS:
  lines w0.12: -10.735,-1.923 -10.735,-2.3 -10.435,-2.6 -7.66,-2.6 ; -10.735,-0.377 -10.735,2.3 -10.435,2.6 -7.66,2.6 ; 7.66,-2.6 10.435,-2.6 10.735,-2.3 10.735,-1.923 ; 7.66,2.6 10.435,2.6 10.735,2.3 10.735,-0.377 ; -7.45,3.143 -7.05,3.143 -7.25,2.86 -7.45,3.143
F.CrtYd:
  lines w0.05: -11.22,-3.1 -11.22,3.1 11.22,3.1 11.22,-3.1 -11.22,-3.1
F.Fab:
  lines w0.1: -7.75,2.49 -7.25,1.783 -6.75,2.49 ; -10.625,-2.19 -10.325,-2.49 0,-2.49 10.325,-2.49 10.625,-2.19 10.625,2.19 10.325,2.49 0,2.49 -10.325,2.49 -10.625,2.19 -10.625,-2.19
  text "'.Designator'" at -4.047,-0.84 h1

## Samtec_LSHM-140-xx.x-x-DV-N_2x40_P0.50mm_Vertical [mm]
pads (82):
  rect 0.3x1.5 smd: 1(-9.75,1.85) 2(-9.75,-1.85) 3(-9.25,1.85) 4(-9.25,-1.85) 5(-8.75,1.85) 6(-8.75,-1.85) 7(-8.25,1.85) 8(-8.25,-1.85) 9(-7.75,1.85) 10(-7.75,-1.85) 11(-7.25,1.85) 12(-7.25,-1.85) 13(-6.75,1.85) 14(-6.75,-1.85) 15(-6.25,1.85) 16(-6.25,-1.85) 17(-5.75,1.85) 18(-5.75,-1.85) 19(-5.25,1.85) 20(-5.25,-1.85) 21(-4.75,1.85) 22(-4.75,-1.85) 23(-4.25,1.85) 24(-4.25,-1.85) 25(-3.75,1.85) 26(-3.75,-1.85) 27(-3.25,1.85) 28(-3.25,-1.85) 29(-2.75,1.85) 30(-2.75,-1.85) 31(-2.25,1.85) 32(-2.25,-1.85) 33(-1.75,1.85) 34(-1.75,-1.85) 35(-1.25,1.85) 36(-1.25,-1.85) 37(-0.75,1.85) 38(-0.75,-1.85) 39(-0.25,1.85) 40(-0.25,-1.85) 41(0.25,1.85) 42(0.25,-1.85) 43(0.75,1.85) 44(0.75,-1.85) 45(1.25,1.85) 46(1.25,-1.85) 47(1.75,1.85) 48(1.75,-1.85) 49(2.25,1.85) 50(2.25,-1.85) 51(2.75,1.85) 52(2.75,-1.85) 53(3.25,1.85) 54(3.25,-1.85) 55(3.75,1.85) 56(3.75,-1.85) 57(4.25,1.85) 58(4.25,-1.85) 59(4.75,1.85) 60(4.75,-1.85) 61(5.25,1.85) 62(5.25,-1.85) 63(5.75,1.85) 64(5.75,-1.85) 65(6.25,1.85) 66(6.25,-1.85) 67(6.75,1.85) 68(6.75,-1.85) 69(7.25,1.85) 70(7.25,-1.85) 71(7.75,1.85) 72(7.75,-1.85) 73(8.25,1.85) 74(8.25,-1.85) 75(8.75,1.85) 76(8.75,-1.85) 77(9.25,1.85) 78(9.25,-1.85) 79(9.75,1.85) 80(9.75,-1.85)
  round 1.45 hole 1.45: Un1(-11,0.85) Un2(11,0.85)
F.SilkS:
  lines w0.12: -10.16,-2.6 -12.16,-2.6 -12.46,-2.3 -12.46,2.3 -12.16,2.6 -10.16,2.6 ; 10.16,-2.6 12.16,-2.6 12.46,-2.3 12.46,2.3 12.16,2.6 10.16,2.6 ; -9.95,3.143 -9.75,2.86 -9.55,3.143 -9.95,3.143
F.CrtYd:
  lines w0.05: -12.85,-3.1 12.85,-3.1 12.85,3.1 -12.85,3.1 -12.85,-3.1
F.Fab:
  lines w0.1: -10.25,2.49 -9.75,1.783 -9.25,2.49 ; -12.35,-2.19 -12.05,-2.49 0,-2.49 12.05,-2.49 12.35,-2.19 12.35,2.19 12.05,2.49 0,2.49 -12.05,2.49 -12.35,2.19 -12.35,-2.19
  text "'.Designator'" at -4.047,-0.84 h1

## Samtec_LSHM-140-xx.x-x-DV-S_2x40-1SH_P0.50mm_Vertical [mm]
pads (84):
  rect 0.3x1.5 smd: 1(-9.75,1.85) 2(-9.75,-1.85) 3(-9.25,1.85) 4(-9.25,-1.85) 5(-8.75,1.85) 6(-8.75,-1.85) 7(-8.25,1.85) 8(-8.25,-1.85) 9(-7.75,1.85) 10(-7.75,-1.85) 11(-7.25,1.85) 12(-7.25,-1.85) 13(-6.75,1.85) 14(-6.75,-1.85) 15(-6.25,1.85) 16(-6.25,-1.85) 17(-5.75,1.85) 18(-5.75,-1.85) 19(-5.25,1.85) 20(-5.25,-1.85) 21(-4.75,1.85) 22(-4.75,-1.85) 23(-4.25,1.85) 24(-4.25,-1.85) 25(-3.75,1.85) 26(-3.75,-1.85) 27(-3.25,1.85) 28(-3.25,-1.85) 29(-2.75,1.85) 30(-2.75,-1.85) 31(-2.25,1.85) 32(-2.25,-1.85) 33(-1.75,1.85) 34(-1.75,-1.85) 35(-1.25,1.85) 36(-1.25,-1.85) 37(-0.75,1.85) 38(-0.75,-1.85) 39(-0.25,1.85) 40(-0.25,-1.85) 41(0.25,1.85) 42(0.25,-1.85) 43(0.75,1.85) 44(0.75,-1.85) 45(1.25,1.85) 46(1.25,-1.85) 47(1.75,1.85) 48(1.75,-1.85) 49(2.25,1.85) 50(2.25,-1.85) 51(2.75,1.85) 52(2.75,-1.85) 53(3.25,1.85) 54(3.25,-1.85) 55(3.75,1.85) 56(3.75,-1.85) 57(4.25,1.85) 58(4.25,-1.85) 59(4.75,1.85) 60(4.75,-1.85) 61(5.25,1.85) 62(5.25,-1.85) 63(5.75,1.85) 64(5.75,-1.85) 65(6.25,1.85) 66(6.25,-1.85) 67(6.75,1.85) 68(6.75,-1.85) 69(7.25,1.85) 70(7.25,-1.85) 71(7.75,1.85) 72(7.75,-1.85) 73(8.25,1.85) 74(8.25,-1.85) 75(8.75,1.85) 76(8.75,-1.85) 77(9.25,1.85) 78(9.25,-1.85) 79(9.75,1.85) 80(9.75,-1.85)
  round 1.5 hole 1: SH(-12.475,-1.15) SH(12.475,-1.15)
  round 1.45 hole 1.45: Un1(-11,0.85) Un2(11,0.85)
F.SilkS:
  lines w0.12: -13.235,-1.923 -13.235,-2.3 -12.935,-2.6 -10.16,-2.6 ; -13.235,-0.377 -13.235,2.3 -12.935,2.6 -10.16,2.6 ; 10.16,-2.6 12.935,-2.6 13.235,-2.3 13.235,-1.923 ; 10.16,2.6 12.935,2.6 13.235,2.3 13.235,-0.377 ; -9.95,3.143 -9.55,3.143 -9.75,2.86 -9.95,3.143
F.CrtYd:
  lines w0.05: -13.72,-3.1 13.72,-3.1 13.72,3.1 -13.72,3.1 -13.72,-3.1
F.Fab:
  lines w0.1: -10.25,2.49 -9.75,1.783 -9.25,2.49 ; -13.125,-2.19 -12.825,-2.49 0,-2.49 12.825,-2.49 13.125,-2.19 13.125,2.19 12.825,2.49 0,2.49 -12.825,2.49 -13.125,2.19 -13.125,-2.19
  text "'.Designator'" at -4.047,-0.84 h1

## Samtec_LSHM-150-xx.x-x-DV-N_2x50_P0.50mm_Vertical [mm]
pads (102):
  rect 0.3x1.5 smd: 1(-12.25,1.85) 2(-12.25,-1.85) 3(-11.75,1.85) 4(-11.75,-1.85) 5(-11.25,1.85) 6(-11.25,-1.85) 7(-10.75,1.85) 8(-10.75,-1.85) 9(-10.25,1.85) 10(-10.25,-1.85) 11(-9.75,1.85) 12(-9.75,-1.85) 13(-9.25,1.85) 14(-9.25,-1.85) 15(-8.75,1.85) 16(-8.75,-1.85) 17(-8.25,1.85) 18(-8.25,-1.85) 19(-7.75,1.85) 20(-7.75,-1.85) 21(-7.25,1.85) 22(-7.25,-1.85) 23(-6.75,1.85) 24(-6.75,-1.85) 25(-6.25,1.85) 26(-6.25,-1.85) 27(-5.75,1.85) 28(-5.75,-1.85) 29(-5.25,1.85) 30(-5.25,-1.85) 31(-4.75,1.85) 32(-4.75,-1.85) 33(-4.25,1.85) 34(-4.25,-1.85) 35(-3.75,1.85) 36(-3.75,-1.85) 37(-3.25,1.85) 38(-3.25,-1.85) 39(-2.75,1.85) 40(-2.75,-1.85) 41(-2.25,1.85) 42(-2.25,-1.85) 43(-1.75,1.85) 44(-1.75,-1.85) 45(-1.25,1.85) 46(-1.25,-1.85) 47(-0.75,1.85) 48(-0.75,-1.85) 49(-0.25,1.85) 50(-0.25,-1.85) 51(0.25,1.85) 52(0.25,-1.85) 53(0.75,1.85) 54(0.75,-1.85) 55(1.25,1.85) 56(1.25,-1.85) 57(1.75,1.85) 58(1.75,-1.85) 59(2.25,1.85) 60(2.25,-1.85) 61(2.75,1.85) 62(2.75,-1.85) 63(3.25,1.85) 64(3.25,-1.85) 65(3.75,1.85) 66(3.75,-1.85) 67(4.25,1.85) 68(4.25,-1.85) 69(4.75,1.85) 70(4.75,-1.85) 71(5.25,1.85) 72(5.25,-1.85) 73(5.75,1.85) 74(5.75,-1.85) 75(6.25,1.85) 76(6.25,-1.85) 77(6.75,1.85) 78(6.75,-1.85) 79(7.25,1.85) 80(7.25,-1.85) 81(7.75,1.85) 82(7.75,-1.85) 83(8.25,1.85) 84(8.25,-1.85) 85(8.75,1.85) 86(8.75,-1.85) 87(9.25,1.85) 88(9.25,-1.85) 89(9.75,1.85) 90(9.75,-1.85) 91(10.25,1.85) 92(10.25,-1.85) 93(10.75,1.85) 94(10.75,-1.85) 95(11.25,1.85) 96(11.25,-1.85) 97(11.75,1.85) 98(11.75,-1.85) 99(12.25,1.85) 100(12.25,-1.85)
  round 1.45 hole 1.45: Un1(-13.5,0.85) Un2(13.5,0.85)
F.SilkS:
  lines w0.12: -12.66,-2.6 -14.66,-2.6 -14.96,-2.3 -14.96,2.3 -14.66,2.6 -12.66,2.6 ; 12.66,-2.6 14.66,-2.6 14.96,-2.3 14.96,2.3 14.66,2.6 12.66,2.6 ; -12.45,3.143 -12.25,2.86 -12.05,3.143 -12.45,3.143
F.CrtYd:
  lines w0.05: -15.35,-3.1 -15.35,3.1 15.35,3.1 15.35,-3.1 -15.35,-3.1
F.Fab:
  lines w0.1: -12.75,2.49 -12.25,1.783 -11.75,2.49 ; -14.85,-2.19 -14.55,-2.49 0,-2.49 14.55,-2.49 14.85,-2.19 14.85,2.19 14.55,2.49 0,2.49 -14.55,2.49 -14.85,2.19 -14.85,-2.19
  text "'.Designator'" at -4.047,-0.84 h1

## Samtec_LSHM-150-xx.x-x-DV-S_2x50-1SH_P0.50mm_Vertical [mm]
pads (104):
  rect 0.3x1.5 smd: 1(-12.25,1.85) 2(-12.25,-1.85) 3(-11.75,1.85) 4(-11.75,-1.85) 5(-11.25,1.85) 6(-11.25,-1.85) 7(-10.75,1.85) 8(-10.75,-1.85) 9(-10.25,1.85) 10(-10.25,-1.85) 11(-9.75,1.85) 12(-9.75,-1.85) 13(-9.25,1.85) 14(-9.25,-1.85) 15(-8.75,1.85) 16(-8.75,-1.85) 17(-8.25,1.85) 18(-8.25,-1.85) 19(-7.75,1.85) 20(-7.75,-1.85) 21(-7.25,1.85) 22(-7.25,-1.85) 23(-6.75,1.85) 24(-6.75,-1.85) 25(-6.25,1.85) 26(-6.25,-1.85) 27(-5.75,1.85) 28(-5.75,-1.85) 29(-5.25,1.85) 30(-5.25,-1.85) 31(-4.75,1.85) 32(-4.75,-1.85) 33(-4.25,1.85) 34(-4.25,-1.85) 35(-3.75,1.85) 36(-3.75,-1.85) 37(-3.25,1.85) 38(-3.25,-1.85) 39(-2.75,1.85) 40(-2.75,-1.85) 41(-2.25,1.85) 42(-2.25,-1.85) 43(-1.75,1.85) 44(-1.75,-1.85) 45(-1.25,1.85) 46(-1.25,-1.85) 47(-0.75,1.85) 48(-0.75,-1.85) 49(-0.25,1.85) 50(-0.25,-1.85) 51(0.25,1.85) 52(0.25,-1.85) 53(0.75,1.85) 54(0.75,-1.85) 55(1.25,1.85) 56(1.25,-1.85) 57(1.75,1.85) 58(1.75,-1.85) 59(2.25,1.85) 60(2.25,-1.85) 61(2.75,1.85) 62(2.75,-1.85) 63(3.25,1.85) 64(3.25,-1.85) 65(3.75,1.85) 66(3.75,-1.85) 67(4.25,1.85) 68(4.25,-1.85) 69(4.75,1.85) 70(4.75,-1.85) 71(5.25,1.85) 72(5.25,-1.85) 73(5.75,1.85) 74(5.75,-1.85) 75(6.25,1.85) 76(6.25,-1.85) 77(6.75,1.85) 78(6.75,-1.85) 79(7.25,1.85) 80(7.25,-1.85) 81(7.75,1.85) 82(7.75,-1.85) 83(8.25,1.85) 84(8.25,-1.85) 85(8.75,1.85) 86(8.75,-1.85) 87(9.25,1.85) 88(9.25,-1.85) 89(9.75,1.85) 90(9.75,-1.85) 91(10.25,1.85) 92(10.25,-1.85) 93(10.75,1.85) 94(10.75,-1.85) 95(11.25,1.85) 96(11.25,-1.85) 97(11.75,1.85) 98(11.75,-1.85) 99(12.25,1.85) 100(12.25,-1.85)
  round 1.5 hole 1: SH(-14.975,-1.15) SH(14.975,-1.15)
  round 1.45 hole 1.45: Un1(-13.5,0.85) Un2(13.5,0.85)
F.SilkS:
  lines w0.12: -15.735,-1.923 -15.735,-2.3 -15.435,-2.6 -12.66,-2.6 ; -15.735,-0.377 -15.735,2.3 -15.435,2.6 -12.66,2.6 ; 12.66,-2.6 15.435,-2.6 15.735,-2.3 15.735,-1.923 ; 12.66,2.6 15.435,2.6 15.735,2.3 15.735,-0.377 ; -12.45,3.143 -12.05,3.143 -12.25,2.86 -12.45,3.143
F.CrtYd:
  lines w0.05: -16.22,-3.1 -16.22,3.1 16.22,3.1 16.22,-3.1 -16.22,-3.1
F.Fab:
  lines w0.1: -12.75,2.49 -12.25,1.783 -11.75,2.49 ; -15.625,-2.19 -15.325,-2.49 0,-2.49 15.325,-2.49 15.625,-2.19 15.625,2.19 15.325,2.49 0,2.49 -15.325,2.49 -15.625,2.19 -15.625,-2.19
  text "'.Designator'" at -4.047,-0.84 h1